# Altium footprint library Dual-In-Line Package.PcbLib: 124 footprints (part 8 of 8)
Each footprint in its own frame and in the unit in brackets; x right, y up, seen from the top. Pads: shape width x height; smd on the part's side, far side on the other; paste and mask are expansions set on the pad; w line width, h text height; cw(c..) or ccw(c..) is an arc to the next point about the centre after c.
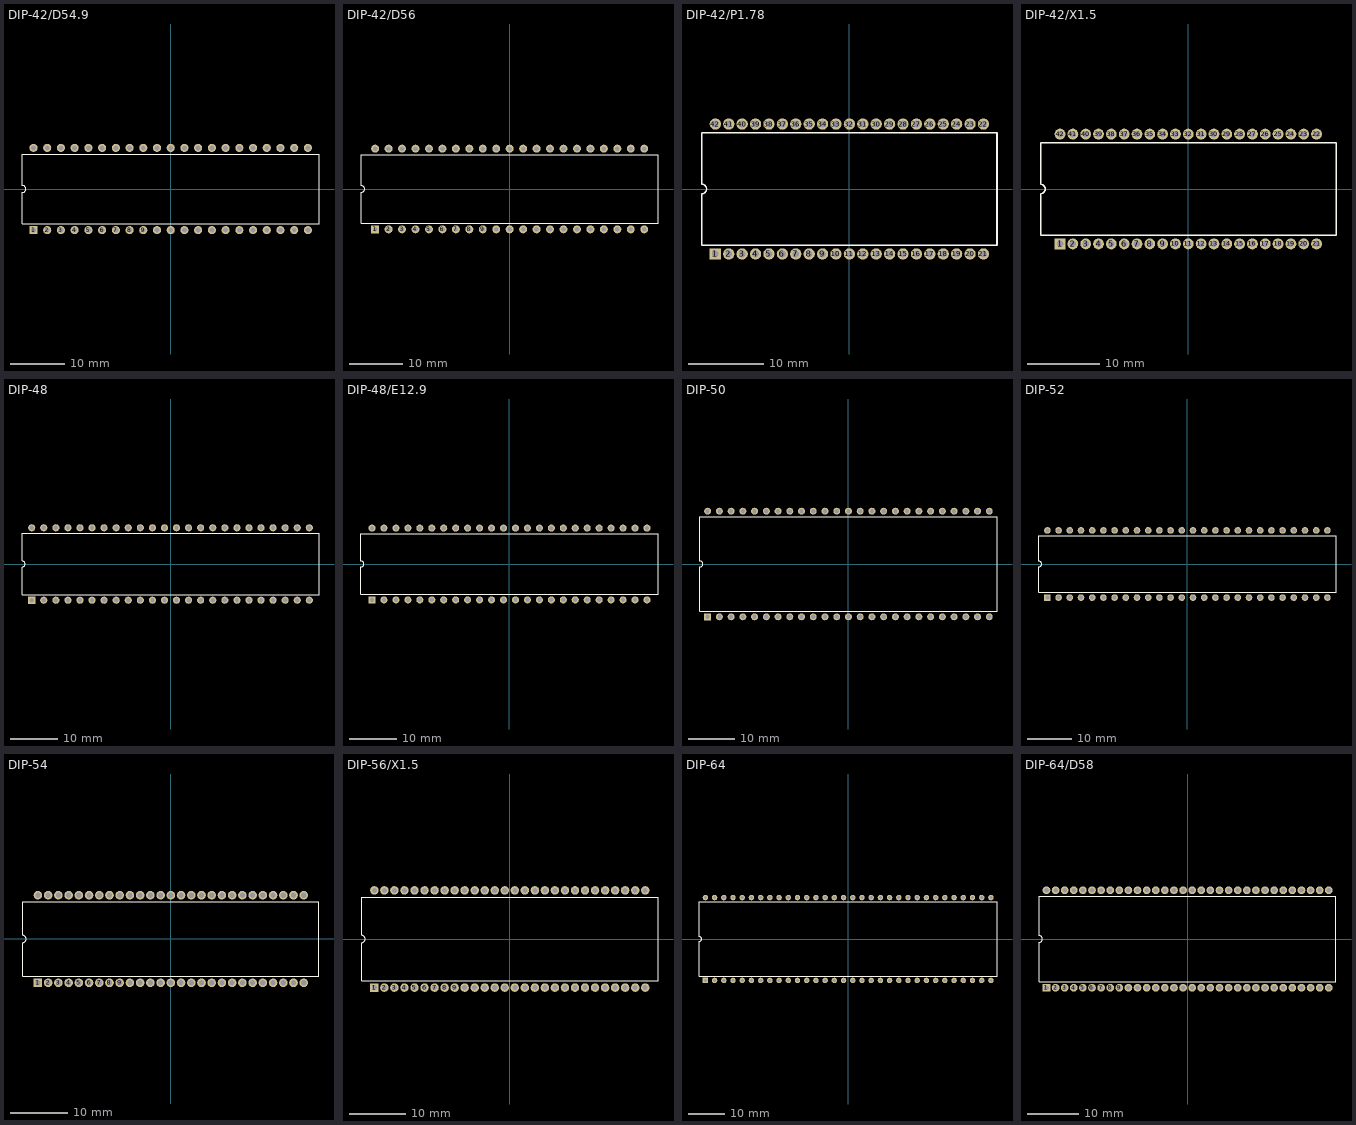
[diagram p7: the footprints below, top view; thin cyan lines are the x and y axes]

## DIP-42/D54.9 [mm]
pads (42):
  rect 1.5x1.5 hole 0.9: 1(-25.4,-7.62)
  round 1.5 hole 0.9: 2(-22.86,-7.62) 3(-20.32,-7.62) 4(-17.78,-7.62) 5(-15.24,-7.62) 6(-12.7,-7.62) 7(-10.16,-7.62) 8(-7.62,-7.62) 9(-5.08,-7.62) 10(-2.54,-7.62) 11(0,-7.62) 12(2.54,-7.62) 13(5.08,-7.62) 14(7.62,-7.62) 15(10.16,-7.62) 16(12.7,-7.62) 17(15.24,-7.62) 18(17.78,-7.62) 19(20.32,-7.62) 20(22.86,-7.62) 21(25.4,-7.62) 22(25.4,7.62) 23(22.86,7.62) 24(20.32,7.62) 25(17.78,7.62) 26(15.24,7.62) 27(12.7,7.62) 28(10.16,7.62) 29(7.62,7.62) 30(5.08,7.62) 31(2.54,7.62) 32(0,7.62) 33(-2.54,7.62) 34(-5.08,7.62) 35(-7.62,7.62) 36(-10.16,7.62) 37(-12.7,7.62) 38(-15.24,7.62) 39(-17.78,7.62) 40(-20.32,7.62) 41(-22.86,7.62) 42(-25.4,7.62)
Top Overlay:
  lines w0.2: -27.45,-6.45 27.45,-6.45 27.45,6.45 -27.45,6.45 -27.45,0.635 cw(c-27.45,0) -27.45,-0.635 -27.45,-6.45

## DIP-42/D56 [mm]
pads (42):
  rect 1.5x1.5 hole 0.9: 1(-25.4,-7.62)
  round 1.5 hole 0.9: 2(-22.86,-7.62) 3(-20.32,-7.62) 4(-17.78,-7.62) 5(-15.24,-7.62) 6(-12.7,-7.62) 7(-10.16,-7.62) 8(-7.62,-7.62) 9(-5.08,-7.62) 10(-2.54,-7.62) 11(0,-7.62) 12(2.54,-7.62) 13(5.08,-7.62) 14(7.62,-7.62) 15(10.16,-7.62) 16(12.7,-7.62) 17(15.24,-7.62) 18(17.78,-7.62) 19(20.32,-7.62) 20(22.86,-7.62) 21(25.4,-7.62) 22(25.4,7.62) 23(22.86,7.62) 24(20.32,7.62) 25(17.78,7.62) 26(15.24,7.62) 27(12.7,7.62) 28(10.16,7.62) 29(7.62,7.62) 30(5.08,7.62) 31(2.54,7.62) 32(0,7.62) 33(-2.54,7.62) 34(-5.08,7.62) 35(-7.62,7.62) 36(-10.16,7.62) 37(-12.7,7.62) 38(-15.24,7.62) 39(-17.78,7.62) 40(-20.32,7.62) 41(-22.86,7.62) 42(-25.4,7.62)
Top Overlay:
  lines w0.2: -28,-6.45 -28,-0.635 ccw(c-28,0) -28,0.635 -28,6.45 28,6.45 28,-6.45 -28,-6.45

## DIP-42/P1.78 [mm]
pads (42):
  rect 1.5x1.5 hole 0.9: 1(-17.8,-8.625)
  round 1.5 hole 0.9: 2(-16.02,-8.625) 3(-14.24,-8.625) 4(-12.46,-8.625) 5(-10.68,-8.625) 6(-8.9,-8.625) 7(-7.12,-8.625) 8(-5.34,-8.625) 9(-3.56,-8.625) 10(-1.78,-8.625) 11(0,-8.625) 12(1.78,-8.625) 13(3.56,-8.625) 14(5.34,-8.625) 15(7.12,-8.625) 16(8.9,-8.625) 17(10.68,-8.625) 18(12.46,-8.625) 19(14.24,-8.625) 20(16.02,-8.625) 21(17.8,-8.625) 22(17.8,8.625) 23(16.02,8.625) 24(14.24,8.625) 25(12.46,8.625) 26(10.68,8.625) 27(8.9,8.625) 28(7.12,8.625) 29(5.34,8.625) 30(3.56,8.625) 31(1.78,8.625) 32(0,8.625) 33(-1.78,8.625) 34(-3.56,8.625) 35(-5.34,8.625) 36(-7.12,8.625) 37(-8.9,8.625) 38(-10.68,8.625) 39(-12.46,8.625) 40(-14.24,8.625) 41(-16.02,8.625) 42(-17.8,8.625)
Top Overlay:
  lines w0.2: -19.6,-7.45 19.6,-7.45 19.6,7.45 -19.6,7.45 -19.6,0.635 cw(c-19.6,0) -19.6,-0.635 -19.6,-7.45

## DIP-42/X1.5 [mm]
pads (42):
  rect 1.5x1.5 hole 0.9: 1(-17.8,-7.62)
  round 1.5 hole 0.9: 2(-16.02,-7.62) 3(-14.24,-7.62) 4(-12.46,-7.62) 5(-10.68,-7.62) 6(-8.9,-7.62) 7(-7.12,-7.62) 8(-5.34,-7.62) 9(-3.56,-7.62) 10(-1.78,-7.62) 11(0,-7.62) 12(1.78,-7.62) 13(3.56,-7.62) 14(5.34,-7.62) 15(7.12,-7.62) 16(8.9,-7.62) 17(10.68,-7.62) 18(12.46,-7.62) 19(14.24,-7.62) 20(16.02,-7.62) 21(17.8,-7.62) 22(17.8,7.62) 23(16.02,7.62) 24(14.24,7.62) 25(12.46,7.62) 26(10.68,7.62) 27(8.9,7.62) 28(7.12,7.62) 29(5.34,7.62) 30(3.56,7.62) 31(1.78,7.62) 32(0,7.62) 33(-1.78,7.62) 34(-3.56,7.62) 35(-5.34,7.62) 36(-7.12,7.62) 37(-8.9,7.62) 38(-10.68,7.62) 39(-12.46,7.62) 40(-14.24,7.62) 41(-16.02,7.62) 42(-17.8,7.62)
Top Overlay:
  lines w0.2: -20.5,-6.45 -20.5,-0.635 ccw(c-20.5,0) -20.5,0.635 -20.5,6.45 20.5,6.45 20.5,-6.45 -20.5,-6.45

## DIP-48 [mm]
pads (48):
  rect 1.5x1.5 hole 0.9: 1(-29.21,-7.62)
  round 1.5 hole 0.9: 2(-26.67,-7.62) 3(-24.13,-7.62) 4(-21.59,-7.62) 5(-19.05,-7.62) 6(-16.51,-7.62) 7(-13.97,-7.62) 8(-11.43,-7.62) 9(-8.89,-7.62) 10(-6.35,-7.62) 11(-3.81,-7.62) 12(-1.27,-7.62) 13(1.27,-7.62) 14(3.81,-7.62) 15(6.35,-7.62) 16(8.89,-7.62) 17(11.43,-7.62) 18(13.97,-7.62) 19(16.51,-7.62) 20(19.05,-7.62) 21(21.59,-7.62) 22(24.13,-7.62) 23(26.67,-7.62) 24(29.21,-7.62) 25(29.21,7.62) 26(26.67,7.62) 27(24.13,7.62) 28(21.59,7.62) 29(19.05,7.62) 30(16.51,7.62) 31(13.97,7.62) 32(11.43,7.62) 33(8.89,7.62) 34(6.35,7.62) 35(3.81,7.62) 36(1.27,7.62) 37(-1.27,7.62) 38(-3.81,7.62) 39(-6.35,7.62) 40(-8.89,7.62) 41(-11.43,7.62) 42(-13.97,7.62) 43(-16.51,7.62) 44(-19.05,7.62) 45(-21.59,7.62) 46(-24.13,7.62) 47(-26.67,7.62) 48(-29.21,7.62)
Top Overlay:
  lines w0.2: -31.25,-6.45 31.25,-6.45 31.25,6.45 -31.25,6.45 -31.25,0.635 cw(c-31.25,0) -31.25,-0.635 -31.25,-6.45

## DIP-48/E12.9 [mm]
pads (48):
  rect 1.5x1.5 hole 0.9: 1(-29.21,-7.62)
  round 1.5 hole 0.9: 2(-26.67,-7.62) 3(-24.13,-7.62) 4(-21.59,-7.62) 5(-19.05,-7.62) 6(-16.51,-7.62) 7(-13.97,-7.62) 8(-11.43,-7.62) 9(-8.89,-7.62) 10(-6.35,-7.62) 11(-3.81,-7.62) 12(-1.27,-7.62) 13(1.27,-7.62) 14(3.81,-7.62) 15(6.35,-7.62) 16(8.89,-7.62) 17(11.43,-7.62) 18(13.97,-7.62) 19(16.51,-7.62) 20(19.05,-7.62) 21(21.59,-7.62) 22(24.13,-7.62) 23(26.67,-7.62) 24(29.21,-7.62) 25(29.21,7.62) 26(26.67,7.62) 27(24.13,7.62) 28(21.59,7.62) 29(19.05,7.62) 30(16.51,7.62) 31(13.97,7.62) 32(11.43,7.62) 33(8.89,7.62) 34(6.35,7.62) 35(3.81,7.62) 36(1.27,7.62) 37(-1.27,7.62) 38(-3.81,7.62) 39(-6.35,7.62) 40(-8.89,7.62) 41(-11.43,7.62) 42(-13.97,7.62) 43(-16.51,7.62) 44(-19.05,7.62) 45(-21.59,7.62) 46(-24.13,7.62) 47(-26.67,7.62) 48(-29.21,7.62)
Top Overlay:
  lines w0.2: -31.55,-6.45 -31.55,-0.635 ccw(c-31.55,0) -31.55,0.635 -31.55,6.45 31.55,6.45 31.55,-6.45 -31.55,-6.45

## DIP-50 [mm]
pads (50):
  rect 1.5x1.5 hole 0.9: 1(-30.48,-11.43)
  round 1.5 hole 0.9: 2(-27.94,-11.43) 3(-25.4,-11.43) 4(-22.86,-11.43) 5(-20.32,-11.43) 6(-17.78,-11.43) 7(-15.24,-11.43) 8(-12.7,-11.43) 9(-10.16,-11.43) 10(-7.62,-11.43) 11(-5.08,-11.43) 12(-2.54,-11.43) 13(0,-11.43) 14(2.54,-11.43) 15(5.08,-11.43) 16(7.62,-11.43) 17(10.16,-11.43) 18(12.7,-11.43) 19(15.24,-11.43) 20(17.78,-11.43) 21(20.32,-11.43) 22(22.86,-11.43) 23(25.4,-11.43) 24(27.94,-11.43) 25(30.48,-11.43) 26(30.48,11.43) 27(27.94,11.43) 28(25.4,11.43) 29(22.86,11.43) 30(20.32,11.43) 31(17.78,11.43) 32(15.24,11.43) 33(12.7,11.43) 34(10.16,11.43) 35(7.62,11.43) 36(5.08,11.43) 37(2.54,11.43) 38(0,11.43) 39(-2.54,11.43) 40(-5.08,11.43) 41(-7.62,11.43) 42(-10.16,11.43) 43(-12.7,11.43) 44(-15.24,11.43) 45(-17.78,11.43) 46(-20.32,11.43) 47(-22.86,11.43) 48(-25.4,11.43) 49(-27.94,11.43) 50(-30.48,11.43)
Top Overlay:
  lines w0.2: -32.15,-10.25 32.15,-10.25 32.15,10.25 -32.15,10.25 -32.15,0.635 cw(c-32.15,0) -32.15,-0.635 -32.15,-10.25

## DIP-52 [mm]
pads (52):
  rect 1.5x1.5 hole 0.9: 1(-31.75,-7.62)
  round 1.5 hole 0.9: 2(-29.21,-7.62) 3(-26.67,-7.62) 4(-24.13,-7.62) 5(-21.59,-7.62) 6(-19.05,-7.62) 7(-16.51,-7.62) 8(-13.97,-7.62) 9(-11.43,-7.62) 10(-8.89,-7.62) 11(-6.35,-7.62) 12(-3.81,-7.62) 13(-1.27,-7.62) 14(1.27,-7.62) 15(3.81,-7.62) 16(6.35,-7.62) 17(8.89,-7.62) 18(11.43,-7.62) 19(13.97,-7.62) 20(16.51,-7.62) 21(19.05,-7.62) 22(21.59,-7.62) 23(24.13,-7.62) 24(26.67,-7.62) 25(29.21,-7.62) 26(31.75,-7.62) 27(31.75,7.62) 28(29.21,7.62) 29(26.67,7.62) 30(24.13,7.62) 31(21.59,7.62) 32(19.05,7.62) 33(16.51,7.62) 34(13.97,7.62) 35(11.43,7.62) 36(8.89,7.62) 37(6.35,7.62) 38(3.81,7.62) 39(1.27,7.62) 40(-1.27,7.62) 41(-3.81,7.62) 42(-6.35,7.62) 43(-8.89,7.62) 44(-11.43,7.62) 45(-13.97,7.62) 46(-16.51,7.62) 47(-19.05,7.62) 48(-21.59,7.62) 49(-24.13,7.62) 50(-26.67,7.62) 51(-29.21,7.62) 52(-31.75,7.62)
Top Overlay:
  lines w0.2: -33.7,-6.45 -33.7,-0.635 ccw(c-33.7,0) -33.7,0.635 -33.7,6.45 33.7,6.45 33.7,-6.45 -33.7,-6.45

## DIP-54 [mm]
pads (54):
  rect 1.5x1.5 hole 0.9: 1(-23.14,-7.62)
  round 1.5 hole 0.9: 2(-21.36,-7.62) 3(-19.58,-7.62) 4(-17.8,-7.62) 5(-16.02,-7.62) 6(-14.24,-7.62) 7(-12.46,-7.62) 8(-10.68,-7.62) 9(-8.9,-7.62) 10(-7.12,-7.62) 11(-5.34,-7.62) 12(-3.56,-7.62) 13(-1.78,-7.62) 14(0,-7.62) 15(1.78,-7.62) 16(3.56,-7.62) 17(5.34,-7.62) 18(7.12,-7.62) 19(8.9,-7.62) 20(10.68,-7.62) 21(12.46,-7.62) 22(14.24,-7.62) 23(16.02,-7.62) 24(17.8,-7.62) 25(19.58,-7.62) 26(21.36,-7.62) 27(23.14,-7.62) 28(23.14,7.62) 29(21.36,7.62) 30(19.58,7.62) 31(17.8,7.62) 32(16.02,7.62) 33(14.24,7.62) 34(12.46,7.62) 35(10.68,7.62) 36(8.9,7.62) 37(7.12,7.62) 38(5.34,7.62) 39(3.56,7.62) 40(1.78,7.62) 41(0,7.62) 42(-1.78,7.62) 43(-3.56,7.62) 44(-5.34,7.62) 45(-7.12,7.62) 46(-8.9,7.62) 47(-10.68,7.62) 48(-12.46,7.62) 49(-14.24,7.62) 50(-16.02,7.62) 51(-17.8,7.62) 52(-19.58,7.62) 53(-21.36,7.62) 54(-23.14,7.62)
Top Overlay:
  lines w0.2: -25.8,-6.45 -25.8,-0.635 ccw(c-25.8,0) -25.8,0.635 -25.8,6.45 25.8,6.45 25.8,-6.45 -25.8,-6.45

## DIP-56/X1.5 [mm]
pads (56):
  rect 1.5x1.5 hole 0.9: 1(-24.03,-8.625)
  round 1.5 hole 0.9: 2(-22.25,-8.625) 3(-20.47,-8.625) 4(-18.69,-8.625) 5(-16.91,-8.625) 6(-15.13,-8.625) 7(-13.35,-8.625) 8(-11.57,-8.625) 9(-9.79,-8.625) 10(-8.01,-8.625) 11(-6.23,-8.625) 12(-4.45,-8.625) 13(-2.67,-8.625) 14(-0.89,-8.625) 15(0.89,-8.625) 16(2.67,-8.625) 17(4.45,-8.625) 18(6.23,-8.625) 19(8.01,-8.625) 20(9.79,-8.625) 21(11.57,-8.625) 22(13.35,-8.625) 23(15.13,-8.625) 24(16.91,-8.625) 25(18.69,-8.625) 26(20.47,-8.625) 27(22.25,-8.625) 28(24.03,-8.625) 29(24.03,8.625) 30(22.25,8.625) 31(20.47,8.625) 32(18.69,8.625) 33(16.91,8.625) 34(15.13,8.625) 35(13.35,8.625) 36(11.57,8.625) 37(9.79,8.625) 38(8.01,8.625) 39(6.23,8.625) 40(4.45,8.625) 41(2.67,8.625) 42(0.89,8.625) 43(-0.89,8.625) 44(-2.67,8.625) 45(-4.45,8.625) 46(-6.23,8.625) 47(-8.01,8.625) 48(-9.79,8.625) 49(-11.57,8.625) 50(-13.35,8.625) 51(-15.13,8.625) 52(-16.91,8.625) 53(-18.69,8.625) 54(-20.47,8.625) 55(-22.25,8.625) 56(-24.03,8.625)
Top Overlay:
  lines w0.2: -26.3,-7.45 26.3,-7.45 26.3,7.45 -26.3,7.45 -26.3,0.635 cw(c-26.3,0) -26.3,-0.635 -26.3,-7.45

## DIP-64 [mm]
pads (64):
  rect 1.5x1.5 hole 0.9: 1(-39.37,-11.43)
  round 1.5 hole 0.9: 2(-36.83,-11.43) 3(-34.29,-11.43) 4(-31.75,-11.43) 5(-29.21,-11.43) 6(-26.67,-11.43) 7(-24.13,-11.43) 8(-21.59,-11.43) 9(-19.05,-11.43) 10(-16.51,-11.43) 11(-13.97,-11.43) 12(-11.43,-11.43) 13(-8.89,-11.43) 14(-6.35,-11.43) 15(-3.81,-11.43) 16(-1.27,-11.43) 17(1.27,-11.43) 18(3.81,-11.43) 19(6.35,-11.43) 20(8.89,-11.43) 21(11.43,-11.43) 22(13.97,-11.43) 23(16.51,-11.43) 24(19.05,-11.43) 25(21.59,-11.43) 26(24.13,-11.43) 27(26.67,-11.43) 28(29.21,-11.43) 29(31.75,-11.43) 30(34.29,-11.43) 31(36.83,-11.43) 32(39.37,-11.43) 33(39.37,11.43) 34(36.83,11.43) 35(34.29,11.43) 36(31.75,11.43) 37(29.21,11.43) 38(26.67,11.43) 39(24.13,11.43) 40(21.59,11.43) 41(19.05,11.43) 42(16.51,11.43) 43(13.97,11.43) 44(11.43,11.43) 45(8.89,11.43) 46(6.35,11.43) 47(3.81,11.43) 48(1.27,11.43) 49(-1.27,11.43) 50(-3.81,11.43) 51(-6.35,11.43) 52(-8.89,11.43) 53(-11.43,11.43) 54(-13.97,11.43) 55(-16.51,11.43) 56(-19.05,11.43) 57(-21.59,11.43) 58(-24.13,11.43) 59(-26.67,11.43) 60(-29.21,11.43) 61(-31.75,11.43) 62(-34.29,11.43) 63(-36.83,11.43) 64(-39.37,11.43)
Top Overlay:
  lines w0.2: -41.05,-10.25 -41.05,-0.635 ccw(c-41.05,0) -41.05,0.635 -41.05,10.25 41.05,10.25 41.05,-10.25 -41.05,-10.25

## DIP-64/D58 [mm]
pads (64):
  rect 1.5x1.5 hole 0.9: 1(-27.59,-9.525)
  round 1.5 hole 0.9: 2(-25.81,-9.525) 3(-24.03,-9.525) 4(-22.25,-9.525) 5(-20.47,-9.525) 6(-18.69,-9.525) 7(-16.91,-9.525) 8(-15.13,-9.525) 9(-13.35,-9.525) 10(-11.57,-9.525) 11(-9.79,-9.525) 12(-8.01,-9.525) 13(-6.23,-9.525) 14(-4.45,-9.525) 15(-2.67,-9.525) 16(-0.89,-9.525) 17(0.89,-9.525) 18(2.67,-9.525) 19(4.45,-9.525) 20(6.23,-9.525) 21(8.01,-9.525) 22(9.79,-9.525) 23(11.57,-9.525) 24(13.35,-9.525) 25(15.13,-9.525) 26(16.91,-9.525) 27(18.69,-9.525) 28(20.47,-9.525) 29(22.25,-9.525) 30(24.03,-9.525) 31(25.81,-9.525) 32(27.59,-9.525) 33(27.59,9.525) 34(25.81,9.525) 35(24.03,9.525) 36(22.25,9.525) 37(20.47,9.525) 38(18.69,9.525) 39(16.91,9.525) 40(15.13,9.525) 41(13.35,9.525) 42(11.57,9.525) 43(9.79,9.525) 44(8.01,9.525) 45(6.23,9.525) 46(4.45,9.525) 47(2.67,9.525) 48(0.89,9.525) 49(-0.89,9.525) 50(-2.67,9.525) 51(-4.45,9.525) 52(-6.23,9.525) 53(-8.01,9.525) 54(-9.79,9.525) 55(-11.57,9.525) 56(-13.35,9.525) 57(-15.13,9.525) 58(-16.91,9.525) 59(-18.69,9.525) 60(-20.47,9.525) 61(-22.25,9.525) 62(-24.03,9.525) 63(-25.81,9.525) 64(-27.59,9.525)
Top Overlay:
  lines w0.2: -29,-8.35 -29,-0.635 ccw(c-29,0) -29,0.635 -29,8.35 29,8.35 29,-8.35 -29,-8.35